# Altium footprint library LED ARRAY.PCBLIB: 11 footprints
Each footprint in its own frame and in the unit in brackets; x right, y up, seen from the top. Pads: shape width x height; smd on the part's side, far side on the other; paste and mask are expansions set on the pad; w line width, h text height; cw(c..) or ccw(c..) is an arc to the next point about the centre after c.
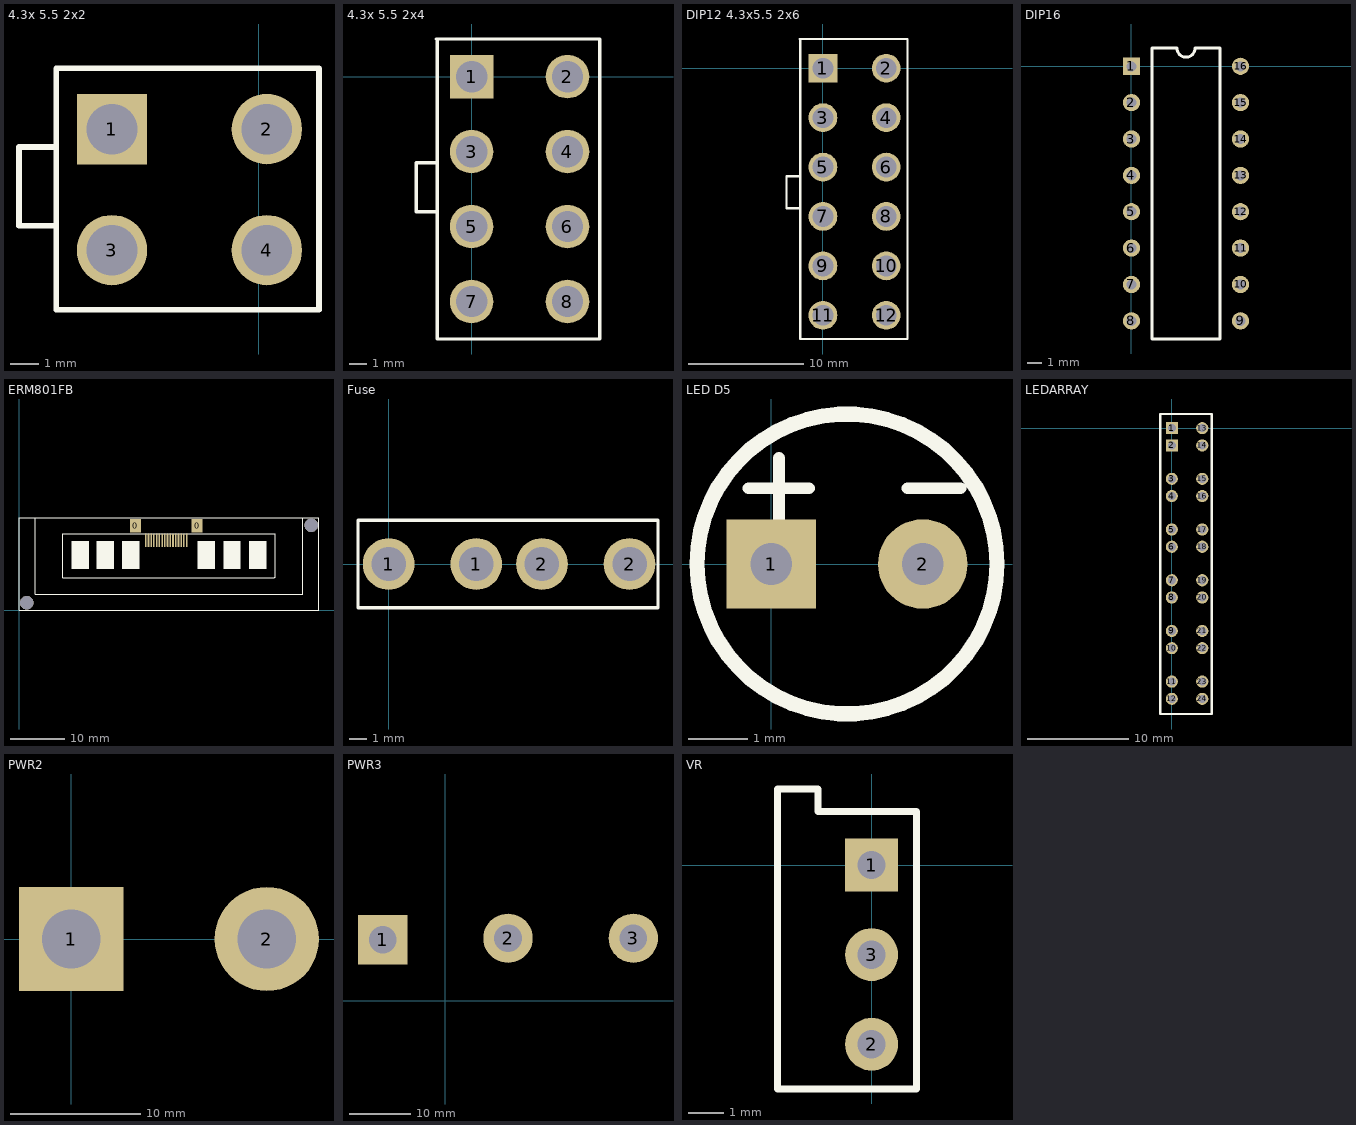
[diagram p0: the footprints below, top view; thin cyan lines are the x and y axes]

## 4.3x 5.5 2x2 [mm]
pads (4):
  rect 2.5x2.5 hole 1.8: 1(-5.207,8.382)
  round 2.5 hole 1.8: 2(0.293,8.382) 3(-5.207,4.082) 4(0.293,4.082)
Top Overlay:
  lines w0.2: -7.313,4.953 -8.509,4.953 -8.509,7.747 -7.313,7.747 ; -7.186,10.532 -7.186,1.968 2.145,1.968 2.145,10.532 -7.112,10.541

## 4.3x 5.5 2x4 [mm]
pads (8):
  rect 2.5x2.5 hole 1.8: 1(0,0)
  round 2.5 hole 1.8: 2(5.5,0) 3(0,-4.3) 4(5.5,-4.3) 5(0,-8.6) 6(5.5,-8.6) 7(0,-12.9) 8(5.5,-12.9)
Top Overlay:
  lines w0.2: -2.032,2.159 7.352,2.15 7.352,-15.05 -1.979,-15.05 -1.979,2.15 ; -1.979,-7.747 -3.175,-7.747 -3.175,-4.953 -1.979,-4.953

## DIP12 4.3x5.5 2x6 [mm]
pads (12):
  rect 2.5x2.5 hole 1.8: 1(0,0)
  round 2.5 hole 1.8: 2(5.5,0) 3(0,-4.3) 4(5.5,-4.3) 5(0,-8.6) 6(5.5,-8.6) 7(0,-12.9) 8(5.5,-12.9) 9(0,-17.2) 10(5.5,-17.2) 11(0,-21.5) 12(5.5,-21.5)
Top Overlay:
  lines w0.2: -2.032,2.54 7.352,2.531 7.352,-23.559 -1.979,-23.559 -1.979,2.531 ; -1.979,-12.192 -3.175,-12.192 -3.175,-9.398 -1.979,-9.398

## DIP16 [mm]
pads (16):
  rect 1.2x1.2 hole 0.7: 1(0,0)
  round 1.2 hole 0.7: 2(0,-2.54) 3(0,-5.08) 4(0,-7.62) 5(0,-10.16) 6(0,-12.7) 7(0,-15.24) 8(0,-17.78) 9(7.62,-17.78) 10(7.62,-15.24) 11(7.62,-12.7) 12(7.62,-10.16) 13(7.62,-7.62) 14(7.62,-5.08) 15(7.62,-2.54) 16(7.62,0)
Top Overlay:
  lines w0.2: 1.435,-19.05 1.435,1.27 3.175,1.27 ccw(c3.81,1.27) 4.445,1.27 6.185,1.27 6.185,-19.05 1.435,-19.05

## ERM801FB [mm]
pads (18):
  rect 2x2.5 smd: 0(21.336,15.494) 0(32.639,15.494)
  rect 0.3x2.5 smd: 1(30.734,12.827)
  oval 0.3x2.5 smd: 2(30.234,12.827) 3(29.734,12.827) 4(29.234,12.827) 5(28.734,12.827) 6(28.234,12.827) 7(27.734,12.827) 8(27.234,12.827) 9(26.734,12.827) 10(26.234,12.827) 11(25.734,12.827) 12(25.234,12.827) 13(24.734,12.827) 14(24.234,12.827) 15(23.734,12.827) 16(23.234,12.827)
via 53.594,15.621 diameter 2.5 hole 2.5
via 1.397,1.397 diameter 2.5 hole 2.5
Top Overlay:
  rectangle: 42.164,7.62 45.339,12.7
  rectangle: 37.465,7.62 40.64,12.7
  rectangle: 32.766,7.62 35.941,12.7
  rectangle: 18.923,7.62 22.098,12.7
  rectangle: 14.224,7.62 17.399,12.7
  rectangle: 9.652,7.62 12.827,12.7
  lines w0.2: 3,17 3,3 52,3 52,17 ; 46.736,6.041 46.777,6 8,6 8,14 47,14 47,6 ; 54.864,17 55,17 ; 55,17 0,17 0,0 55,0 55,17

## Fuse [mm]
pads (4):
  round 3 hole 2: 1(0,0) 1(5.08,0) 2(8.89,0) 2(13.97,0)
Top Overlay:
  lines w0.2: -1.778,-2.54 15.621,-2.54 15.621,2.54 -1.778,2.54 -1.778,2.413 -1.778,-2.54

## LED D5 [mm]
pads (2):
  rect 1.5x1.5 hole 0.7: 1(0,0)
  round 1.5 hole 0.7: 2(2.54,0)
Top Overlay:
  circle w0.254: c1.27,0 r2.515
  lines w0.2: -0.381,1.27 0.635,1.27 ; 0.127,0.762 0.127,1.778 ; 2.286,1.27 3.175,1.27

## LEDARRAY [mm]
pads (24):
  rect 1.2x1.2 hole 0.8: 1(0,0) 2(0,-1.7)
  round 1.2 hole 0.8: 3(0,-5) 4(0,-6.7) 5(0,-10) 6(0,-11.7) 7(0,-15) 8(0,-16.7) 9(0,-20) 10(0,-21.7) 11(0,-25) 12(0,-26.7) 13(3,0) 14(3,-1.7) 15(3,-5) 16(3,-6.7) 17(3,-10) 18(3,-11.7) 19(3,-15) 20(3,-16.7) 21(3,-20) 22(3,-21.7) 23(3,-25) 24(3,-26.7)
Top Overlay:
  lines w0.2: -1.143,-28.194 3.937,-28.194 3.937,1.397 -1.143,1.397 -1.143,-28.194

## PWR2 [mm]
pads (2):
  rect 8x8 hole 4.5: 1(0,0)
  round 8 hole 4.5: 2(15,0)

## PWR3 [mm]
pads (3):
  rect 8x8 hole 4.5: 1(-10.16,9.906)
  round 8 hole 4.5: 2(10.16,10.16) 3(30.48,10.16)

## VR [mm]
pads (3):
  rect 1.5x1.5 hole 0.8: 1(0,0)
  round 1.5 hole 0.8: 2(0,-5.08) 3(0,-2.54)
Top Overlay:
  lines w0.2: -2.667,-6.35 1.27,-6.35 1.27,1.524 -1.524,1.524 -1.524,2.159 -2.667,2.159 -2.667,1.397 -2.667,-6.35